# EAGLE library part MC33171PG (library On Semiconductor)
Operational Amplifiers
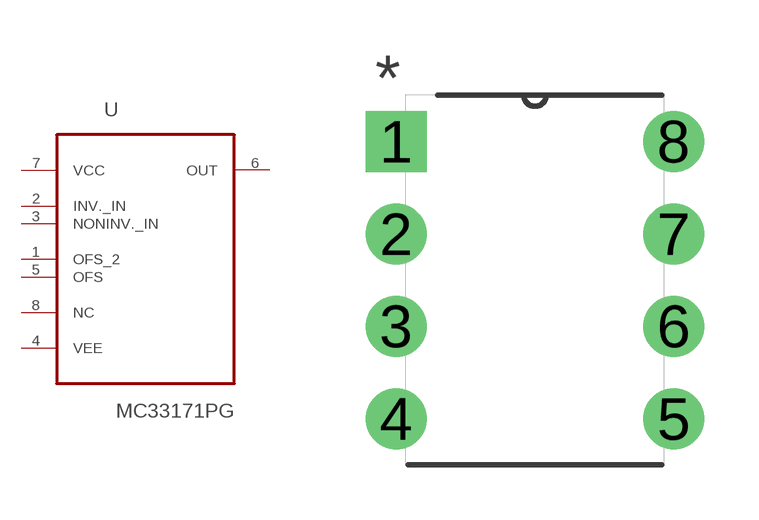
[diagram p355: symbol with the pads of DIP254P762X533-8; footprint DIP254P762X533-8]

Designator prefix U

## MC33171PG (MPN: MC33171PG; OC_FARNELL: 9664955; OC_NEWARK: 26K4011; PACKAGE: PDIP; SUPPLIER: ON SEMICONDUCTOR)  [DIP254P762X533-8]
1  OFS_2  pas
2  INV._IN  in
3  NONINV._IN  in
4  VEE  pas
5  OFS  pas
6  OUT  out
7  VCC  pwr
8  NC  nc

## Footprint DIP254P762X533-8 (pad centres in mm)
drill 1.118 square: 1 -7.62,7.62
drill 1.118: 2 -7.62,5.08; 3 -7.62,2.54; 4 -7.62,0; 5 0,0; 6 0,2.54; 7 0,5.08; 8 0,7.62